# Altium footprint library 21-Transistor.PcbLib: 90 footprints (part 4 of 6)
Each footprint in its own frame and in the unit in brackets; x right, y up, seen from the top. Pads: shape width x height; smd on the part's side, far side on the other; paste and mask are expansions set on the pad; w line width, h text height; cw(c..) or ccw(c..) is an arc to the next point about the centre after c.
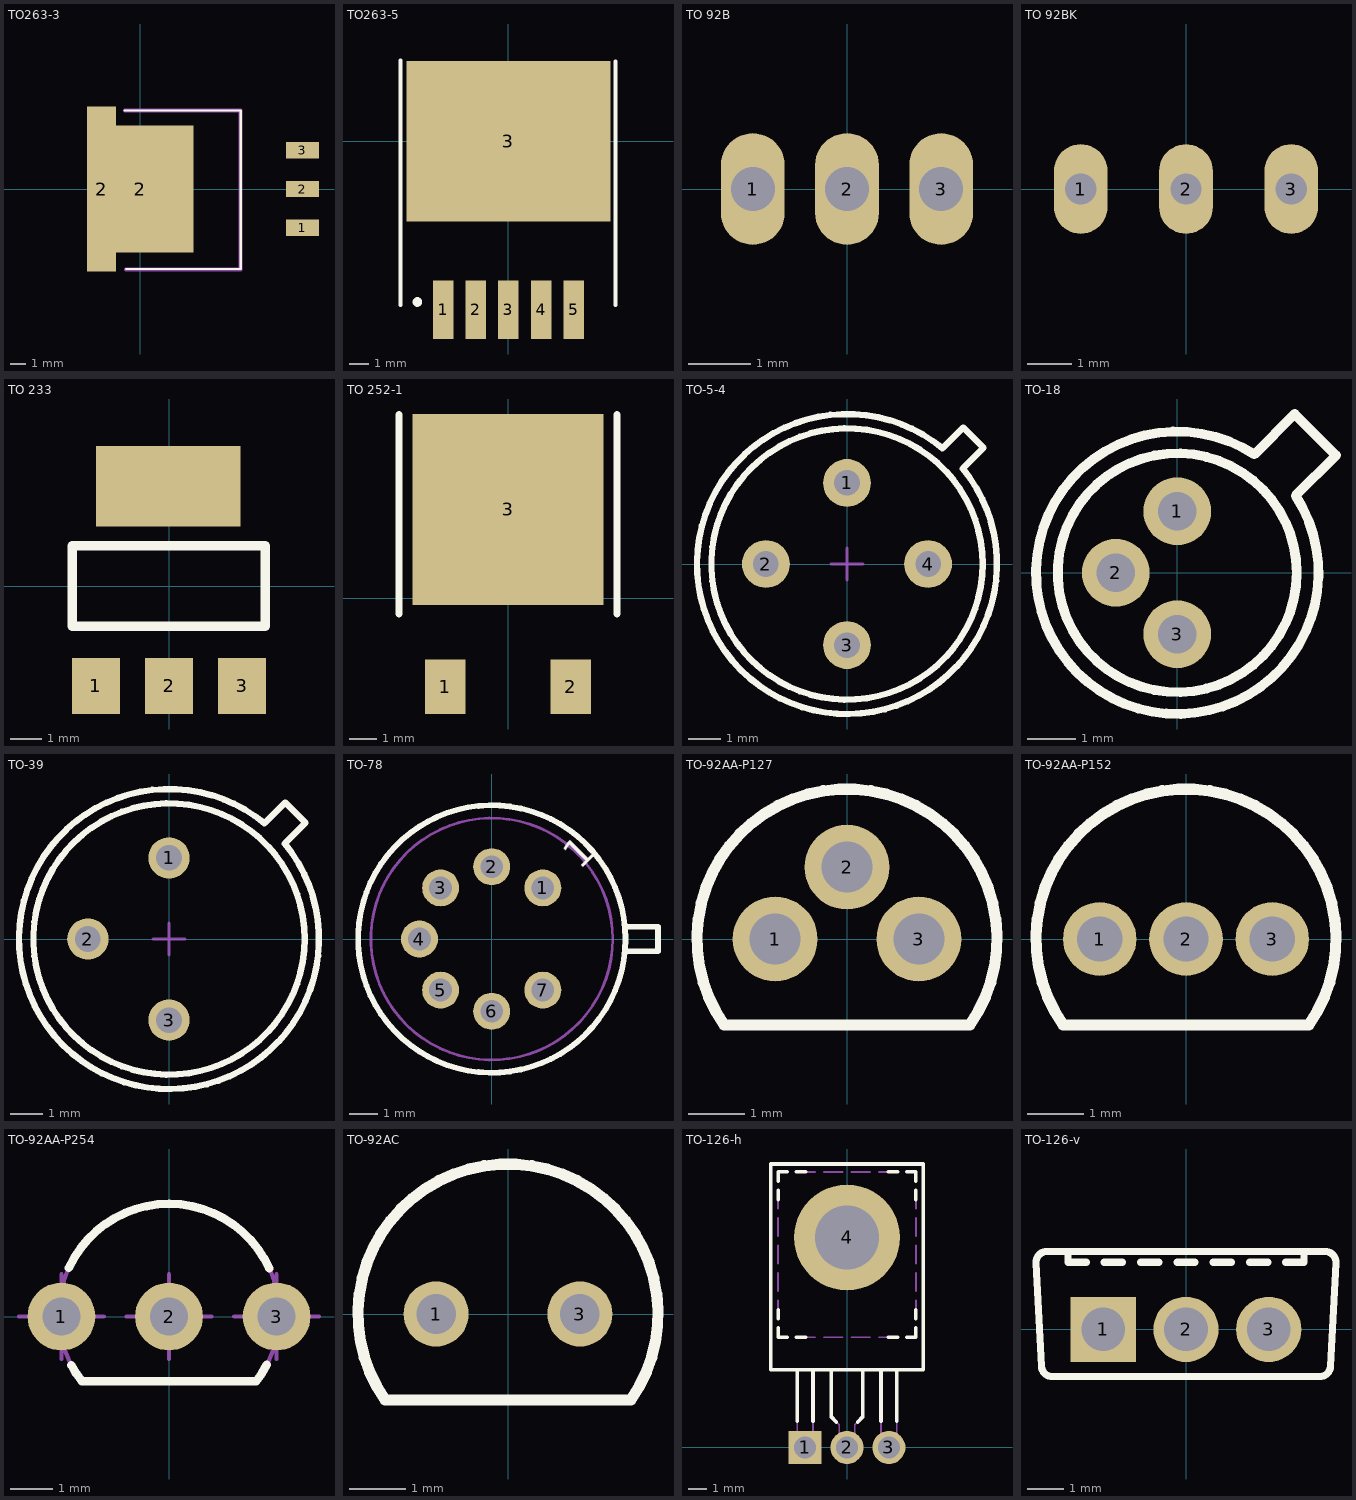
[diagram p3: the footprints below, top view; thin cyan lines are the x and y axes]

## TO263-3 [mm]
height 4.69
pads (5):
  rect 2.16x1.07 smd mask+0.07: 1(10.614,-2.54) 2(10.614,0) 3(10.614,2.54)
  rect 1.91x10.8 smd: 2(-2.54,0)
  rect 6.99x8.33 smd mask+0.07: 2(0,0)
Top Overlay:
  lines w0.15: -1.016,5.131 6.579,5.131 6.579,-5.232 -0.94,-5.232
Mechanical 15:
  lines w0.254: -1.016,5.131 6.553,5.131 6.553,-5.258 -0.94,-5.258
3D body "ts3b.stp": height 4.57, standoff -0.05, extent -3.25,-5.105 11.1,5.055

## TO263-5 [mm]
height 4.69
pads (6):
  rect 1.07x3.048 smd: 1(-3.4,-8.788) 2(-1.7,-8.788) 3(0,-8.788) 4(1.7,-8.788) 5(3.4,-8.788)
  rect 10.66x8.38 smd: 3(0,0)
Top Overlay:
  circle w0.25: c-4.748,-8.382 r0.125
  lines w0.2: -5.639,-8.534 -5.639,4.216 ; 5.588,-8.534 5.588,4.166
3D body "to-263-5.stp": height 4.65, standoff -0.01, extent -5.232,-8.814 5.178,3.599

## TO 92B [mil]
height 66.93
pads (3):
  oval 40x70 hole 27.56: 1(-59.06,0)
  oval 40x70 hole 27.56 mask+2.76: 2(0,0) 3(59.06,0)
3D body "to92by.stp": height 1.97, standoff -41.34, extent 39.06,-34.84 79.06,34.85
3D body "to92by.stp": height 1.97, standoff -41.34, extent -20,-34.84 20,34.84
3D body "to92b.stp": height 0.39, standoff -41.34, extent -79.05,-34.84 -39.05,34.85
3D body "to-92b.stp": height 314.96, standoff -66.93, extent -92,-32.64 92,92

## TO 92BK [mm]
height 1.7
pads (3):
  oval 1.2x2 hole 0.7 mask+0.07: 1(-2.35,0) 3(2.35,0)
  oval 1.2x2 hole 0.7: 2(0,0)
3D body "to-92b.stp": height 8, standoff -1.7, extent -2.337,-0.829 2.337,2.337
3D body "to92b.stp": height 0.01, standoff -1.05, extent -2.845,-0.889 -1.829,0.881
3D body "to92by.stp": height 0.05, standoff -1.05, extent -0.508,-0.885 0.508,0.885
3D body "to92by.stp": height 0.05, standoff -1.05, extent 1.841,-0.889 2.857,0.881

## TO 233 [mil]
height 66.93
pads (4):
  rect 60x70 smd mask+2.76: 1(-91,-124.29) 2(0,-124.29) 3(91,-124.29)
  rect 180x100 smd: ""(-1,124.29)
Top Overlay:
  lines w11.81: -120.43,-50 -120.43,50 119.57,50 119.57,-50 -120.43,-50
3D body "sot-233_to261aa.stp": height 70.87, standoff 0, extent -127.95,-138 127.95,137.59

## TO 252-1 [mm]
height 1.7
pads (3):
  rect 1.5x2 smd: 1(-2.3,-3.25) 2(2.3,-3.25)
  rect 7x7 smd: 3(0,3.25)
Top Overlay:
  lines w0.254: -4,-0.584 -4,6.731 ; 4,-0.584 4,6.731
3D body "1_5-2.stp": height 0.02, standoff 0, extent 1.55,-4.5 3.05,-2
3D body "1_5-2.stp": height 0.02, standoff 0, extent -3.05,-4.5 -1.55,-2
3D body "7-7.stp": height 0.02, standoff 0, extent -3.5,-0.25 3.5,6.75
3D body "sto252-3.stp": height 2.3, standoff -0.01, extent -3.301,-3.294 3.199,6.206

## TO-5-4 [mm] "TO-5, 4 Leads"
height 11.25
pads (4):
  round 1.5 hole 0.8: 1(0,2.54) 2(-2.54,0) 3(0,-2.54) 4(2.54,0)
Top Overlay:
  circle w0.2: c0,0 r4.25
  lines w0.2: 2.99,3.626 ccw(c0,0) 3.626,2.99 4.278,3.642 3.642,4.278 2.99,3.626
Mechanical 8:
  lines w0.1: -3.04,0 -2.54,0 ; -2.54,-0.5 -2.54,0 ; -2.54,0.5 -2.54,0 ; -2.04,0 -2.54,0 ; -0.5,-2.54 0,-2.54 ; -0.5,0 0,0 ; -0.5,2.54 0,2.54 ; 0,-3.04 0,-2.54 ; 0,-2.04 0,-2.54 ; 0,-0.5 0,0 ; 0,0.5 0,0 ; 0,2.04 0,2.54 ; 0,3.04 0,2.54 ; 0.5,-2.54 0,-2.54 ; 0.5,0 0,0 ; 0.5,2.54 0,2.54
Mechanical 14:
  circle w0.1: c0,0 r4.25
  lines w0.1: 2.99,3.626 ccw(c0,0) 3.626,2.99 4.278,3.642 3.642,4.278 2.99,3.626
3D body "TO-5-3.stp": height 11.25, standoff -3.65, extent -4.7,-4.7 4.7,4.7

## TO-18 [mm] "TO-18  3 Leads, Pitch 2.54mm, Body Dia. 5.84mm, Leads Dia. 0.5mm"
height 10.13
pads (3):
  round 1.4 hole 0.8: 1(0,1.27) 2(-1.27,0) 3(0,-1.27)
Top Overlay:
  circle w0.2: c0,0 r2.47
  lines w0.2: 1.593,2.447 ccw(c0,0) 2.447,1.593 3.282,2.428 2.428,3.282 1.593,2.447
Mechanical 14:
  circle w0.1: c0,0 r2.47
  lines w0.1: 1.593,2.447 ccw(c0,0) 2.447,1.593 3.282,2.428 2.428,3.282 1.593,2.447
3D body "TO-18.stp": height 10.13, standoff -3.6, extent -2.92,-2.92 3.282,3.282

## TO-39 [mm] "TO-39  3 Leads, Pitch 2.54mm, Body Dia. 9.4mm, Leads Dia. 0.5mm"
height 6.6
pads (3):
  round 1.3 hole 0.8: 1(0,2.54) 2(-2.54,0) 3(0,-2.54)
Top Overlay:
  circle w0.2: c0,0 r4.25
  lines w0.2: 2.99,3.626 ccw(c0,0) 3.626,2.99 4.278,3.642 3.642,4.278 2.99,3.626
Mechanical 8:
  lines w0.1: -3.04,0 -2.54,0 ; -2.54,-0.5 -2.54,0 ; -2.54,0.5 -2.54,0 ; -2.04,0 -2.54,0 ; -0.5,-2.54 0,-2.54 ; -0.5,0 0,0 ; -0.5,2.54 0,2.54 ; 0,-3.04 0,-2.54 ; 0,-2.04 0,-2.54 ; 0,-0.5 0,0 ; 0,0.5 0,0 ; 0,2.04 0,2.54 ; 0,3.04 0,2.54 ; 0.5,-2.54 0,-2.54 ; 0.5,0 0,0 ; 0.5,2.54 0,2.54
Mechanical 14:
  circle w0.1: c0,0 r4.25
  lines w0.1: 2.99,3.626 ccw(c0,0) 3.626,2.99 4.278,3.642 3.642,4.278 2.99,3.626
3D body "TO-39.stp": height 11.25, standoff -3.65, extent -4.7,-4.7 4.7,4.7

## TO-78 [mm] "TO-78 7 Leads, Body Dia. 9.4mm (max), Lead Diameter 5.08mm"
height 4.7
pads (7):
  round 1.3 hole 0.8: 1(1.796,1.796) 2(0,2.54) 3(-1.796,1.796) 4(-2.54,0) 5(-1.796,-1.796) 6(0,-2.54) 7(1.796,-1.796)
Top Overlay:
  circle w0.2: c0,0 r4.699
  lines w0.2: 4.679,-0.432 5.842,-0.432 5.842,0.432 4.679,0.432
  text "1" at 3.098,2.391 h1
Mechanical 8:
  text "2" at 0.5,3.667 h1
  text "3" at -2.239,2.946 h1
  text "4" at -3.643,0.5 h1
  text "5" at -2.946,-2.239 h1
  text "6" at -0.5,-3.69 h1
  text "7" at 2.239,-2.946 h1
Mechanical 14:
  circle w0.1: c0,0 r4.25
  circle w0.1: c0,0 r4.699
  lines w0.1: 4.679,-0.432 5.842,-0.432 5.842,0.432 4.679,0.432
  text "1" at 3.098,2.391 h1
3D body "TO-78.stp": height 4.7, standoff -3.6, extent -4.695,-4.695 5.835,4.695

## TO-92AA-P127 [mm] "TO-92 (TO-226),  Pitch 1.27mm, Flat Index, 3 In-Line, Axial Leads, Body Dia. 5.3mm, Leads Dia. 0.5mm (max)"
height 5.33
pads (3):
  round 1.5 hole 0.9: 1(-1.27,0) 2(0,1.27) 3(1.27,0)
Top Overlay:
  lines w0.2: -2.171,-1.52 cw(c0,0) 2.171,-1.52 -2.171,-1.52
Mechanical 14:
  lines w0.1: -2.171,-1.52 cw(c0,0) 2.171,-1.52 -2.171,-1.52
3D body "TO-92AA-P127.stp": height 9.33, standoff -3.2, extent -2.597,-1.53 2.598,2.66

## TO-92AA-P152 [mm] "TO-92 (TO-226),  Pitch 1.524mm, Flat Index, 3 In-Line, Axial Leads, Body Dia. 5.3mm, Leads Dia. 0.5mm (max)"
height 5.33
pads (3):
  round 1.3 hole 0.8: 1(-1.524,0) 2(0,0) 3(1.524,0)
Top Overlay:
  lines w0.2: -2.171,-1.52 cw(c0,0) 2.171,-1.52 -2.171,-1.52
Mechanical 14:
  lines w0.1: -2.171,-1.52 cw(c0,0) 2.171,-1.52 -2.171,-1.52
3D body "TO-92AA-P152.stp": height 9.33, standoff -3.2, extent -2.597,-1.53 2.598,2.66

## TO-92AA-P254 [mm] "TO-92 (TO226), Pitch 2.54mm, Flat Index, 3 In-Line, Bent Leads, Body Dia. 5.3mm"
height 9.33
pads (3):
  round 1.6 hole 0.9: 1(-2.54,0) 2(0,0) 3(2.54,0)
Top Overlay:
  lines w0.2: -2.363,1.145 cw(c0,0.059) 2.369,1.133 ; -2.302,-1.151 ccw(c0,0.059) -2.059,-1.53 2.059,-1.53 ccw(c0,0.059) 2.307,-1.141
Mechanical 8:
  lines w0.1: -3.54,0 -2.54,0 ; -2.54,-1 -2.54,0 ; -2.54,1 -2.54,0 ; -1.54,0 -2.54,0 ; -1,0 0,0 ; 0,-1 0,0 ; 0,1 0,0 ; 1,0 0,0 ; 1.54,0 2.54,0 ; 2.54,-1 2.54,0 ; 2.54,1 2.54,0 ; 3.54,0 2.54,0
Mechanical 14:
  lines w0.1: -2.059,-1.53 cw(c0,0.059) 2.059,-1.53 -2.059,-1.53
3D body "TO-92AA-P254.stp": height 9.33, standoff -3.2, extent -2.81,-1.53 2.81,2.66

## TO-92AC [mm] "TO-92 (TO-226), Flat Index, 2 In-Line, Pitch 2.54mm, Axial Leads, Body Dia. 5.3mm, Leads Dia. 0.5mm (max)"
height 5.33
pads (2):
  round 1.15 hole 0.7: 1(-1.27,0) 3(1.27,0)
Top Overlay:
  lines w0.2: -2.171,-1.52 cw(c0,0) 2.171,-1.52 -2.171,-1.52
Mechanical 14:
  lines w0.1: -2.171,-1.52 cw(c0,0) 2.171,-1.52 -2.171,-1.52
3D body "TO-92AC.stp": height 9.33, standoff -3.2, extent -2.669,-1.523 2.526,2.667

## TO-126-h [mm] "TO-126 3-Terminal - Horizontal Mount"
height 3.45
pads (4):
  rect 1.8x1.8 hole 1.2: 1(-2.28,0)
  round 1.8 hole 1.2: 2(0,0) 3(2.28,0)
  round 5.75 hole 3.5: 4(0,11.43)
Top Overlay:
  lines w0.2: -3.75,6.5 -3.75,6 -3.25,6 ; -3.75,7 -3.75,7.5 ; -3.75,13.5 -3.75,14 ; -3.75,14.5 -3.75,15 -3.25,15 ; -2.75,6 -2.25,6 ; -2.75,15 -2.25,15 ; -2.705,1.439 -2.705,4.23 ; -1.855,1.439 -1.855,4.23 ; -0.85,4.23 -0.85,1.655 -0.579,1.384 ; 0.579,1.384 0.85,1.655 0.85,4.23 ; 1.855,1.439 1.855,4.23 ; 2.25,6 2.75,6 ; 2.25,15 2.75,15 ; 2.705,1.439 2.705,4.23 ; 3.25,6 3.75,6 3.75,6.5 ; 3.25,15 3.75,15 3.75,14.5 ; 3.75,7 3.75,7.5 ; 3.75,13.5 3.75,14 ; -4.15,4.23 -4.15,15.43 4.15,15.43 4.15,4.23 -4.15,4.23
Mechanical 14:
  circle w0.1: c0,11.43 r1.75
  lines w0.1: -3.75,6.5 -3.75,6 -3.25,6 ; -3.75,7 -3.75,8 ; -3.75,8.5 -3.75,9.5 ; -3.75,10 -3.75,11 ; -3.75,11.5 -3.75,12.5 ; -3.75,13 -3.75,14 ; -3.75,14.5 -3.75,15 -3.25,15 ; -2.75,6 -1.75,6 ; -2.75,15 -1.75,15 ; -2.705,4.23 -2.705,0 -1.855,0 -1.855,4.23 ; -1.25,6 -0.25,6 ; -1.25,15 -0.25,15 ; -0.85,4.23 -0.85,1.655 -0.425,1.23 -0.425,0 0.425,0 0.425,1.23 0.85,1.655 0.85,4.23 ; 0.25,6 1.25,6 ; 0.25,15 1.25,15 ; 1.75,6 2.75,6 ; 1.75,15 2.75,15 ; 1.855,4.23 1.855,0 2.705,0 2.705,4.23 ; 3.25,6 3.75,6 3.75,6.5 ; 3.25,15 3.75,15 3.75,14.5 ; 3.75,7 3.75,8 ; 3.75,8.5 3.75,9.5 ; 3.75,10 3.75,11 ; 3.75,11.5 3.75,12.5 ; 3.75,13 3.75,14 ; -4.15,4.23 4.15,4.23 4.15,15.43 -4.15,15.43 -4.15,4.23
3D body "TO-126-H.stp": height 3.45, standoff -3.1, extent -4.133,-0.3 4.134,15.43

## TO-126-v [mm] "TO-126 3-Terminal - Vertical Mount"
height 14.2
pads (3):
  rect 1.8x1.8 hole 1.2: 1(-2.28,0)
  round 1.8 hole 1.2: 2(0,0) 3(2.28,0)
Top Overlay:
  lines w0.2: -3.25,2.15 -3.25,1.85 -2.75,1.85 ; -2.25,1.85 -1.75,1.85 ; -1.25,1.85 -0.75,1.85 ; -0.25,1.85 0.25,1.85 ; 0.75,1.85 1.25,1.85 ; 1.75,1.85 2.25,1.85 ; 2.75,1.85 3.25,1.85 3.25,2.15 ; -4.133,1.834 cw(c-3.834,1.85) -3.834,2.15 3.834,2.15 cw(c3.834,1.85) 4.133,1.834 3.984,-1.016 cw(c3.685,-1) 3.685,-1.3 -3.685,-1.3 cw(c-3.685,-1) -3.984,-1.016 -4.133,1.834
Mechanical 14:
  lines w0.1: -3.25,2.15 -3.25,1.85 -2.75,1.85 ; -2.25,1.85 -1.75,1.85 ; -1.25,1.85 -0.75,1.85 ; -0.25,1.85 0.25,1.85 ; 0.75,1.85 1.25,1.85 ; 1.75,1.85 2.25,1.85 ; 2.75,1.85 3.25,1.85 3.25,2.15 ; -4.133,1.834 cw(c-3.834,1.85) -3.834,2.15 3.834,2.15 cw(c3.834,1.85) 4.133,1.834 3.984,-1.016 cw(c3.685,-1) 3.685,-1.3 -3.685,-1.3 cw(c-3.685,-1) -3.984,-1.016 -4.133,1.834
3D body "TO-126-V.stp": height 14.2, standoff -3.1, extent -4.133,-1.3 4.134,2.15